# EAGLE library part FM25H20 (library lib_stankus)
Ramtron FM25H20 SPI FRAM
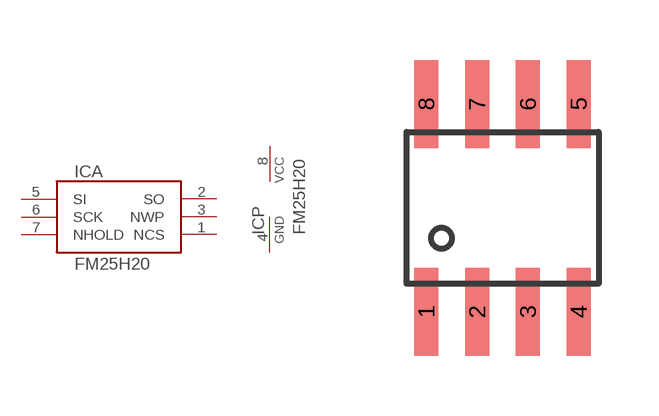
[diagram p3: symbol with the pads of SOIC8; footprint SOIC8]

Designator prefix IC; gates A=FM25H20_IO P=FM25H20_PWR

## FM25H20-SOIC8  [SOIC8]
1  A:NCS  pas
2  A:SO  pas
3  A:NWP  pas
4  P:GND  pas
5  A:SI  pas
6  A:SCK  pas
7  A:NHOLD  pas
8  P:VCC  pas

## Footprint SOIC8 (pad centres in mm)
SOIC8
smd 0.6 x 2.2: 1 -1.905,-2.6; 2 -0.635,-2.6; 3 0.635,-2.6; 4 1.905,-2.6; 5 1.905,2.6; 6 0.635,2.6; 7 -0.635,2.6; 8 -1.905,2.6